# EAGLE library part MA03-2 (library MAAV)
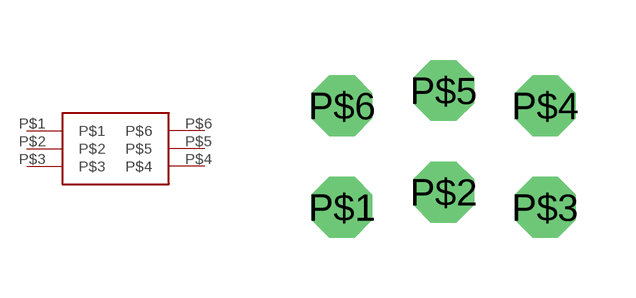
[diagram p4: symbol with the pads of MA03-2; footprint MA03-2]

Designator prefix J

## MA03-2  [MA03-2]
P$1  P$1
P$2  P$2
P$3  P$3
P$4  P$4
P$5  P$5
P$6  P$6

## Footprint MA03-2 (pad centres in mm)
drill 1.016 octagon: P$1 -2.54,-1.46; P$2 0,-1.079; P$3 2.54,-1.46; P$4 2.54,1.079; P$5 0,1.46; P$6 -2.54,1.079